# Altium schematic symbol library LMS1585ACT-3P3&slash_NOPB.SchLib: 2 symbols
Pins are listed as number, name and electrical type; pins without a type are passive.

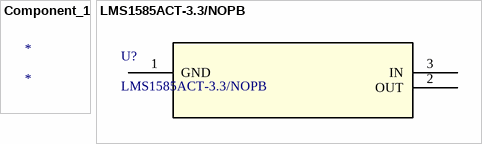
[diagram p0: symbols Component_1 to LMS1585ACT-3.3/NOPB]

## Component_1
designator *

## LMS1585ACT-3.3/NOPB
designator U?
No Description Available; Mfr_Name: Texas Instruments; Copyright: Copyright (C) 2022 Ultra Librarian. All rights reserved.; Manufacturer_Part_Number: LMS1585ACT-3.3/NOPB; Digi-Key_Part_Number_1: LMS1585ACT-3.3/NOPB-ND; RefDes: RefDes; Type: DEV
footprint T03B_TEX
pins: 1 GND (power), 2 OUT (power), 3 IN (power)